# Altium footprint library EEG_PcbLib.PcbLib: 77 footprints (part 4 of 5)
Each footprint in its own frame and in the unit in brackets; x right, y up, seen from the top. Pads: shape width x height; smd on the part's side, far side on the other; paste and mask are expansions set on the pad; w line width, h text height; cw(c..) or ccw(c..) is an arc to the next point about the centre after c.
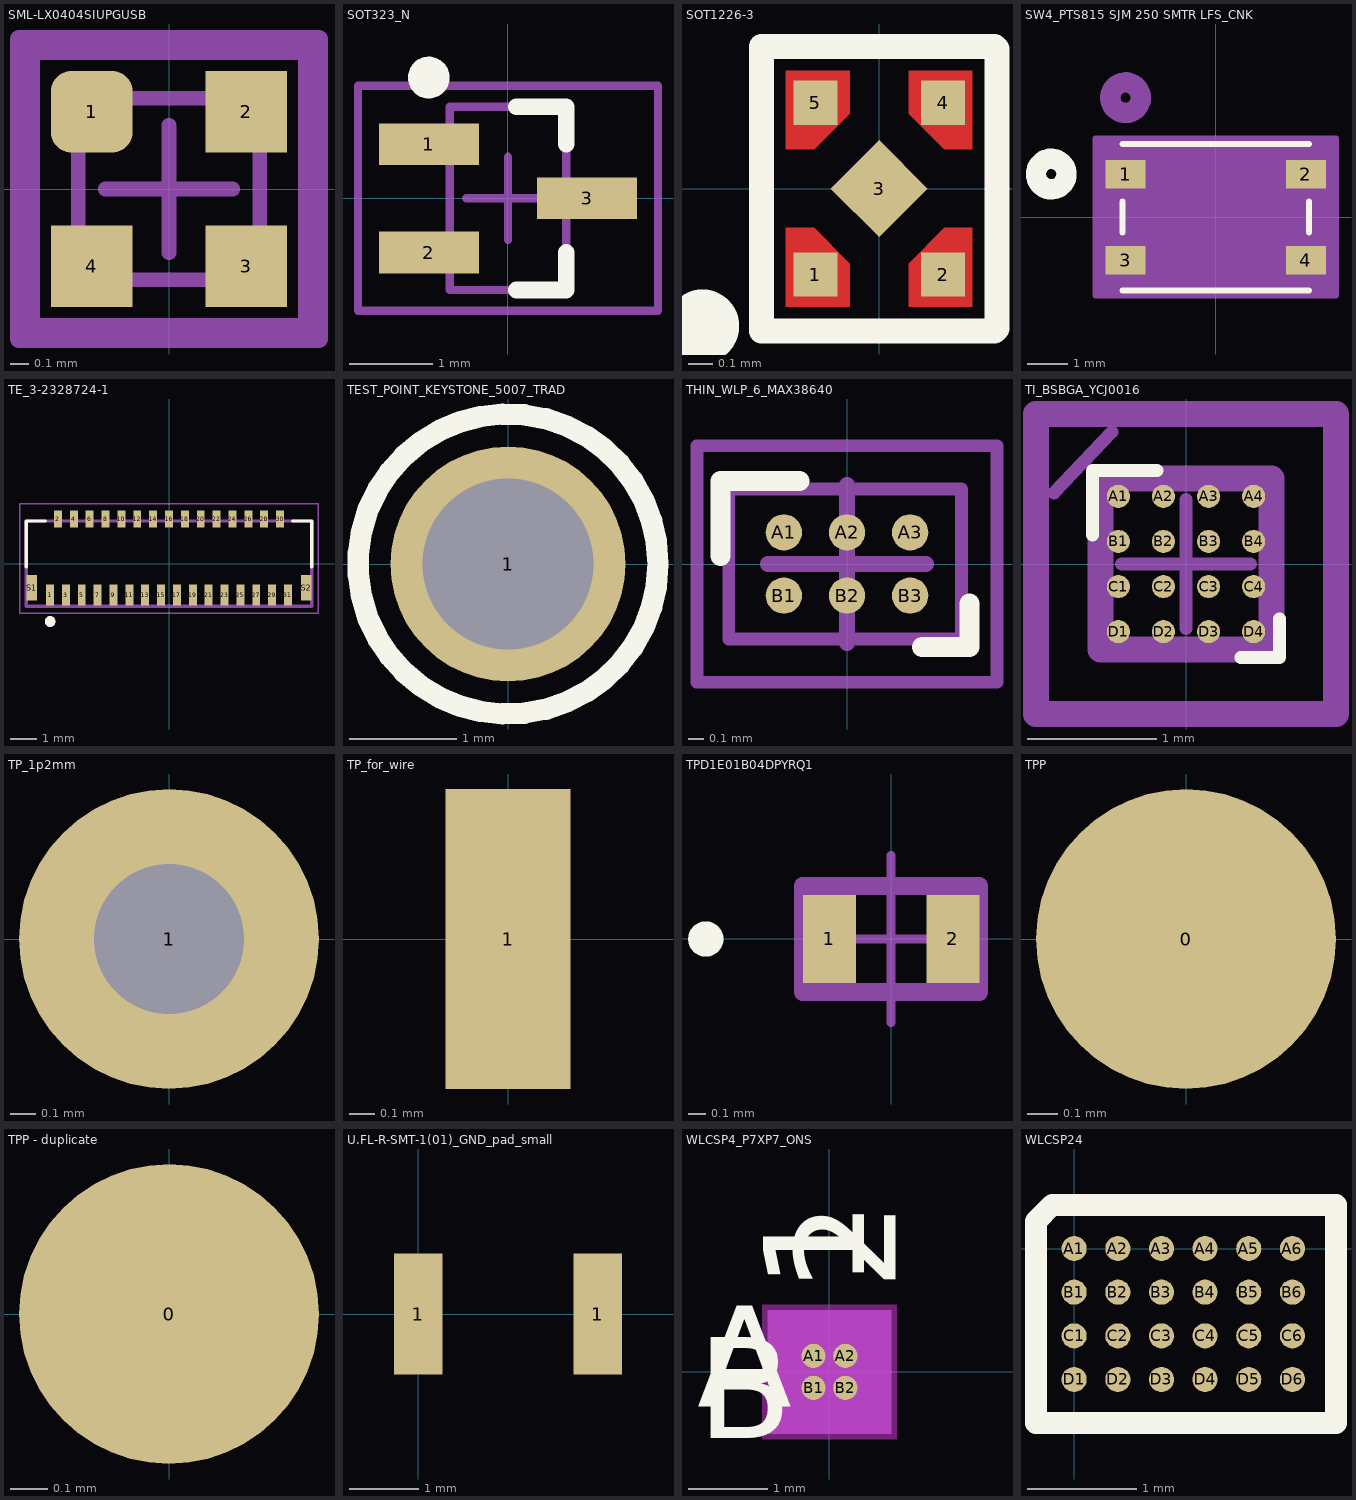
[diagram p3: the footprints below, top view; thin cyan lines are the x and y axes]

## SML-LX0404SIUPGUSB [mm]
pads (4):
  rrect50% 0.45x0.45 smd: 1(-0.425,0.425)
  rect 0.45x0.45 smd: 2(0.425,0.425) 3(0.425,-0.425) 4(-0.425,-0.425)
Top Assembly:
  lines w0.1: -0.825,-0.825 -0.825,0.825 0.825,0.825 0.825,-0.825 -0.825,-0.825
Top Courtyard:
  lines w0.08: -0.75,-0.75 -0.75,0.75 0.75,0.75 0.75,-0.75 -0.75,-0.75
Top Component Outline:
  lines w0.08: -0.5,-0.5 0.5,-0.5 0.5,0.5 -0.5,0.5 -0.5,-0.5
Top Component Center:
  lines w0.08: -0.35,0 0.35,0 ; 0,-0.35 0,0.35
3D body "Diode_Lumex_SML-LX0404SIUPGUSB_eec.STEP": height 0.25, standoff 0, extent -0.5,-0.5 0.5,0.5

## SOT323_N [mm]
pads (3):
  rect 1.2x0.5 smd: 1(-0.95,0.65) 2(-0.95,-0.65) 3(0.95,0)
Top Overlay:
  circle w0.25: c-0.95,1.45 r0.125
  lines w0.2: 0.1,-1.1 0.7,-1.1 0.7,-0.65 ; 0.1,1.1 0.7,1.1 0.7,0.65
Mechanical 13:
  lines w0.1: -0.7,-1.1 0.7,-1.1 0.7,1.1 -0.7,1.1 -0.7,-1.1
Mechanical 15:
  lines w0.1: -0.5,0 0.5,0 ; 0,-0.5 0,0.5 ; -1.8,-1.35 1.8,-1.35 1.8,1.35 -1.8,1.35 -1.8,-1.35
3D body: height 1.1, standoff 0, extent -0.7,-1.1 0.7,1.1

## SOT1226-3 [mm]
pads (5):
  rect 0.18x0.18 smd paste+0 mask+0: 1(-0.26,-0.35) 2(0.26,-0.35) 4(0.26,0.35) 5(-0.26,0.35)
  rect 0.28x0.28 smd rot 45 paste+0 mask+0: 3(0,0)
Top Layer:
  region: 0.38,-0.48 0.38,-0.16 0.265,-0.16 0.12,-0.305 0.12,-0.48
  region: -0.38,0.48 -0.38,0.16 -0.265,0.16 -0.12,0.305 -0.12,0.48
  region: -0.38,-0.48 -0.38,-0.16 -0.265,-0.16 -0.12,-0.305 -0.12,-0.48
  region: 0.38,0.48 0.38,0.16 0.265,0.16 0.12,0.305 0.12,0.48
Top Overlay:
  circle w0.254: c-0.72,-0.56 r0.022
  lines w0.102: -0.48,-0.58 0.47,-0.58 0.48,-0.57 0.48,0.57 0.47,0.58 -0.48,0.58 -0.48,-0.58
Top Paste:
  region: 0.4,-0.5 0.4,-0.14 0.275,-0.14 0.1,-0.315 0.1,-0.5
  region: -0.4,0.5 -0.4,0.14 -0.275,0.14 -0.1,0.315 -0.1,0.5
  region: -0.4,-0.5 -0.4,-0.14 -0.275,-0.14 -0.1,-0.315 -0.1,-0.5
  region: 0.4,0.5 0.4,0.14 0.275,0.14 0.1,0.315 0.1,0.5
Top Solder:
  rectangle: -0.45,-0.55 0.45,0.55
3D body "SOT1226-3.step": height 0.37, standoff -0.01, extent -0.4,-0.4 0.4,0.4

## SW4_PTS815 SJM 250 SMTR LFS_CNK [mm]
pads (4):
  rect 0.991x0.711 smd paste+0 mask+0: 1(-2.25,1.075) 2(2.25,1.075) 3(-2.25,-1.075) 4(2.25,-1.075)
Top Overlay:
  circle w0.508: c-4.102,1.075 r0.381
  lines w0.152: -2.324,-1.829 2.324,-1.829 ; -2.324,-0.387 -2.324,0.387 ; -2.324,1.829 2.324,1.829 ; 2.324,-0.387 2.324,0.387
Bottom Overlay:
  circle w0.508: c-4.102,1.075 r0.381
Mechanical 13:
  circle w0.508: c-2.25,2.98 r0.381
  lines w0.025: -2.197,-1.702 2.197,-1.702 2.197,1.702 -2.197,1.702 -2.197,-1.702
Mechanical 15:
  region: 2.999,1.956 -2.999,1.956 -2.999,-1.956 2.999,-1.956
  lines w0.152: -2.999,-1.956 -2.999,1.956 2.999,1.956 2.999,-1.956 -2.999,-1.956
3D body "PTS815SJM250SMTRLFS.stp": height 2.51, standoff 0.01, extent -2.25,-1.6 2.25,1.6

## TE_3-2328724-1 [mm]
height 1.1
pads (33):
  rect 0.3x0.8 smd paste-1: 1(-4.5,-1.185) 3(-3.9,-1.185) 5(-3.3,-1.185) 7(-2.7,-1.185) 9(-2.1,-1.185) 11(-1.5,-1.185) 13(-0.9,-1.185) 15(-0.3,-1.185) 17(0.3,-1.185) 19(0.9,-1.185) 21(1.5,-1.185) 23(2.1,-1.185) 25(2.7,-1.185) 27(3.3,-1.185) 29(3.9,-1.185) 31(4.5,-1.185)
  rect 0.3x0.65 smd paste-1: 2(-4.2,1.69) 4(-3.6,1.69) 6(-3,1.69) 8(-2.4,1.69) 10(-1.8,1.69) 12(-1.2,1.69) 14(-0.6,1.69) 16(0,1.69) 18(0.6,1.69) 20(1.2,1.69) 22(1.8,1.69) 24(2.4,1.69) 26(3,1.69) 28(3.6,1.69) 30(4.2,1.69)
  rect 0.4x0.95 smd paste-1: S1(-5.2,-0.91) S2(5.2,-0.91)
Top Overlay:
  circle w0.2: c-4.5,-2.185 r0.1
  lines w0.127: -5.4,-0.115 -5.4,1.615 -4.67,1.615 ; 4.67,1.615 5.4,1.615 5.4,-0.115
Top Paste:
  region: -4.385,-1.585 -4.615,-1.585 -4.615,-0.935 -4.385,-0.935
  region: -3.785,-1.585 -4.015,-1.585 -4.015,-0.935 -3.785,-0.935
  region: -3.185,-1.585 -3.415,-1.585 -3.415,-0.935 -3.185,-0.935
  region: -2.585,-1.585 -2.815,-1.585 -2.815,-0.935 -2.585,-0.935
  region: -1.985,-1.585 -2.215,-1.585 -2.215,-0.935 -1.985,-0.935
  region: -1.385,-1.585 -1.615,-1.585 -1.615,-0.935 -1.385,-0.935
  region: -0.785,-1.585 -1.015,-1.585 -1.015,-0.935 -0.785,-0.935
  region: -0.185,-1.585 -0.415,-1.585 -0.415,-0.935 -0.185,-0.935
  region: -4.085,1.475 -4.315,1.475 -4.315,2.015 -4.085,2.015
  region: -3.485,1.475 -3.715,1.475 -3.715,2.015 -3.485,2.015
  region: -2.885,1.475 -3.115,1.475 -3.115,2.015 -2.885,2.015
  region: -2.285,1.475 -2.515,1.475 -2.515,2.015 -2.285,2.015
  region: -1.685,1.475 -1.915,1.475 -1.915,2.015 -1.685,2.015
  region: -1.085,1.475 -1.315,1.475 -1.315,2.015 -1.085,2.015
  region: -0.485,1.475 -0.715,1.475 -0.715,2.015 -0.485,2.015
  region: -5.1,-1.385 -5.4,-1.385 -5.4,-0.675 -5.1,-0.675
  region: 5.4,-1.385 5.1,-1.385 5.1,-0.675 5.4,-0.675
  region: 0.415,-1.585 0.185,-1.585 0.185,-0.935 0.415,-0.935
  region: 0.115,1.475 -0.115,1.475 -0.115,2.015 0.115,2.015
  region: 1.015,-1.585 0.785,-1.585 0.785,-0.935 1.015,-0.935
  region: 0.715,1.475 0.485,1.475 0.485,2.015 0.715,2.015
  region: 1.615,-1.585 1.385,-1.585 1.385,-0.935 1.615,-0.935
  region: 1.315,1.475 1.085,1.475 1.085,2.015 1.315,2.015
  region: 2.215,-1.585 1.985,-1.585 1.985,-0.935 2.215,-0.935
  region: 1.915,1.475 1.685,1.475 1.685,2.015 1.915,2.015
  region: 2.815,-1.585 2.585,-1.585 2.585,-0.935 2.815,-0.935
  region: 2.515,1.475 2.285,1.475 2.285,2.015 2.515,2.015
  region: 3.415,-1.585 3.185,-1.585 3.185,-0.935 3.415,-0.935
  region: 3.115,1.475 2.885,1.475 2.885,2.015 3.115,2.015
  region: 4.015,-1.585 3.785,-1.585 3.785,-0.935 4.015,-0.935
  region: 3.715,1.475 3.485,1.475 3.485,2.015 3.715,2.015
  region: 4.615,-1.585 4.385,-1.585 4.385,-0.935 4.615,-0.935
  region: 4.315,1.475 4.085,1.475 4.085,2.015 4.315,2.015
Mechanical 13:
  circle w0.2: c-4.5,-2.185 r0.1
  lines w0.127: -5.4,-1.615 -5.4,1.615 5.4,1.615 5.4,-1.615 -5.4,-1.615
Mechanical 15:
  lines w0.05: -5.65,-1.865 -5.65,2.265 5.65,2.265 5.65,-1.865 -5.65,-1.865
3D body "c-3-2328724-1-a-3d.stp": height 1.01, standoff 0.01, extent -5.4,-1.657 5.4,1.82

## TEST_POINT_KEYSTONE_5007_TRAD [mm] "Point de test"
pads (1):
  round 2.2 hole 1.6 paste-5: 1(0,0)
Top Overlay:
  circle w0.2: c0,0 r1.404
3D body "User Library-testpoint.step": height 5.59, standoff -3.29, extent -1.587,-1.587 1.588,1.588

## THIN_WLP_6_MAX38640 [mm]
pads (6):
  round 0.229 smd paste+0 mask+0: A1(-0.4,0.2) A2(0,0.2) A3(0.4,0.2) B1(-0.4,-0.2) B2(0,-0.2) B3(0.4,-0.2)
Top Overlay:
  lines w0.127: -0.801,0.05 -0.801,0.525 -0.3,0.525 ; 0.475,-0.525 0.776,-0.525 0.776,-0.25
Top Assembly:
  lines w0.08: -0.95,-0.75 0.95,-0.75 0.95,0.75 -0.95,0.75 -0.95,-0.75
Top Courtyard:
  lines w0.08: -0.95,-0.75 0.95,-0.75 0.95,0.75 -0.95,0.75 -0.95,-0.75
Top Component Outline:
  lines w0.08: -0.75,-0.475 -0.75,0.475 0.725,0.475 0.725,-0.475 -0.75,-0.475
Top Component Center:
  lines w0.1: -0.5,0 0.5,0 ; 0,-0.5 0,0.5
3D body "21-100128A_N60E12_MXM.step": height 0.5, standoff 0, extent -0.733,-0.457 0.715,0.457

## TI_BSBGA_YCJ0016 [mm]
pads (16):
  round 0.18 smd paste+0 mask+0: A1(-0.525,0.525) A2(-0.175,0.525) A3(0.175,0.525) A4(0.525,0.525) B1(-0.525,0.175) B2(-0.175,0.175) B3(0.175,0.175) B4(0.525,0.175) C1(-0.525,-0.175) C2(-0.175,-0.175) C3(0.175,-0.175) C4(0.525,-0.175) D1(-0.525,-0.525) D2(-0.175,-0.525) D3(0.175,-0.525) D4(0.525,-0.525)
Top Overlay:
  lines w0.1: -0.725,0.225 -0.725,0.725 -0.225,0.725 ; 0.425,-0.725 0.725,-0.725 0.725,-0.425
Top Assembly:
  lines w0.1: -1.025,0.55 -0.575,1.025
  lines w0.2: -1.165,-1.165 1.165,-1.165 1.165,1.165 -1.165,1.165 -1.165,-1.165
Top Component Outline:
  lines w0.2: -0.664,-0.664 -0.664,0.664 0.664,0.664 0.664,-0.664 -0.664,-0.664
Top Component Center:
  lines w0.1: -0.5,0 0.5,0 ; 0,-0.5 0,0.5
3D body "IC_Texas_Instruments_TMUX1575YCJR_eec.STEP": height 0.25, standoff 0, extent -1.165,-1.165 1.165,1.165

## TP_1p2mm [mm]
pads (1):
  round 1.2 / inner round 0 / far side round 1 hole 0.6: 1(0,0)

## TP_for_wire [mm]
pads (1):
  rect 0.5x1.2 smd: 1(0,0)

## TPD1E01B04DPYRQ1 [mm]
pads (2):
  rect 0.3x0.5 smd: 1(-0.35,0) 2(0.35,0)
Top Overlay:
  lines w0.1: -1.1,0 ccw(c-1.05,0) -1,0 ccw(c-1.05,0) -1.1,0
Top Assembly:
  lines w0.1: -0.5,-0.3 0.5,-0.3 0.5,0.3 -0.5,0.3 -0.5,-0.3
Top Component Center:
  lines w0.05: -0.475,0 0.475,0 ; 0,-0.475 0,0.475
3D body "TPD1E01B04DPYRQ1.stp": height 0.55, standoff 0, extent -0.5,-0.3 0.5,0.3

## TPP [mm]
pads (1):
  round 1 smd: 0(0,0)

## TPP - duplicate [mm]
pads (1):
  round 0.8 smd: 0(0,0)

## U.FL-R-SMT-1(01)_GND_pad_small [mm]
pads (2):
  rect 0.7x1.75 smd: 1(0,0) 1(2.6,0)

## WLCSP4_P7XP7_ONS [mm]
pads (4):
  round 0.305 smd paste+0 mask+0: A1(-0.2,0.2) A2(0.2,0.2) B1(-0.2,-0.2) B2(0.2,-0.2)
Top Overlay:
  text "A" at -1.664,-0.435 h1.27
  text "B" at -1.664,-0.835 h1.27
  text "1" at 0.435,1.029 h1.27
  text "2" at 0.835,1.029 h1.27
Bottom Overlay:
  text "A" at -1.029,-0.435 h1.27
  text "B" at -1.029,-0.835 h1.27
  text "1" at -0.835,1.029 h1.27
  text "2" at -0.435,1.029 h1.27
Keep-Out Layer:
  region: -0.844,-0.844 -0.844,0.844 0.844,0.844 0.844,-0.844
Mechanical 5:
  region: 0.775,-0.775 -0.775,-0.775 -0.775,0.775 0.775,0.775
Mechanical 13:
  lines w0.025: -0.394,0.194 -0.194,0.394 ; -0.394,-0.394 0.394,-0.394 0.394,0.394 -0.394,0.394 -0.394,-0.394
  text "A" at -1.664,-0.435 h1.27
  text "B" at -1.664,-0.835 h1.27
  text "1" at 0.435,1.029 h1.27
  text "2" at 0.835,1.029 h1.27
Mechanical 15:
  region: 0.648,-0.648 -0.648,-0.648 -0.648,0.648 0.648,0.648
  lines w0.152: -0.648,-0.648 -0.648,0.648 0.648,0.648 0.648,-0.648 -0.648,-0.648
3D body "WLCSP4_P7XP7_ONS.step": height 0.36, standoff 0, extent -0.394,-0.394 0.394,0.394

## WLCSP24 [mm]
pads (24):
  round 0.23 smd mask-0.02: A1(0,0) A2(0.4,0) A3(0.8,0) A4(1.2,0) A5(1.6,0) A6(2,0) B1(0,-0.4) B2(0.4,-0.4) B3(0.8,-0.4) B4(1.2,-0.4) B5(1.6,-0.4) B6(2,-0.4) C1(0,-0.8) C2(0.4,-0.8) C3(0.8,-0.8) C4(1.2,-0.8) C5(1.6,-0.8) C6(2,-0.8) D1(0,-1.2) D2(0.4,-1.2) D3(0.8,-1.2) D4(1.2,-1.2) D5(1.6,-1.2) D6(2,-1.2)
Top Overlay:
  lines w0.2: 2.4,-1.6 -0.35,-1.6 -0.35,0.25 -0.2,0.4 2.4,0.4 2.4,-1.57
3D body: height 0.51, standoff 0.21, extent -0.28,-1.52 2.36,0.32